# EAGLE library part 6861XX148922_686108148922 (library Wurth_Connectors_WR-FPC)
WR-FPC 1.00 mm SMT ZIF Horizontal - Bottom Contact - Hinge Type KIND PROPERTIES Pitch 1 mm MATERIAL PROPERTIES Insulator Material PA6T Contact Material Phosphor Bronze Contact Plating 120 (µ") Tin over 50 (µ") Nickel Contact Type Stamped Solder Tabs Brass <https://www.we-online.com/catalog/media/o58875v209%20Family_Con_FPC_ZIF_100_6861xx148922.jpg> Details see: https://www.we-online.com/catalog/en/FPC_1_00_SMT_ZIF_HORIZONTAL_BOTTOM_CONTACT_HINGE_TYPE_6861XX148922/ Updated by Ella Wu 2020-08-26 2020(C) Wurth Elektronik
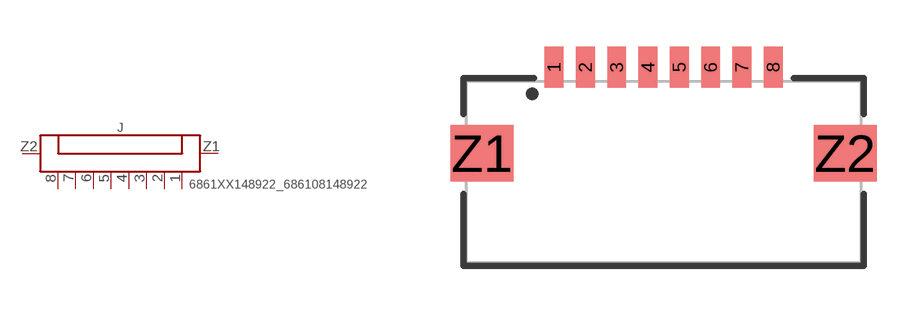
[diagram p120: symbol with the pads of 686108148922; footprint 686108148922]

Designator prefix J

## 6861XX148922_686108148922 (CONTACT-RESISTANCE: 50mOhm; DATASHEET-URL: https://www.we-online.com/catalog/datasheet/686108148922.pdf; IR: 1A; L: 12.6mm; MATE-WITH: WR-FFC 1.00 mm Flat Flexible Cable Type 1 (Contacts on same side)/ Type 2 (Contacts opposite); PACKAGING: Tape and Reel; PART-NUMBER: 686108148922; PINS: 8; PITCH: 1mm; TYPE: Horizontal; VALUE: 686108148922; WORKING-VOLTAGE: 100V(AC))  [686108148922]
1  1  pas
2  2  pas
3  3  pas
4  4  pas
5  5  pas
6  6  pas
7  7  pas
8  8  pas
Z1  Z1  pas
Z2  Z2  pas

## Footprint 686108148922 (pad centres in mm)
WR-FPC 1.00 mm SMT ZIF Horizontal - Bottom Contact - Hinge Type,8Pins
smd 0.6 x 1.3: 1 -3.5,3.35; 2 -2.5,3.35; 3 -1.5,3.35; 4 -0.5,3.35; 5 0.5,3.35; 6 1.5,3.35; 7 2.5,3.35; 8 3.5,3.35
smd 2 x 1.8: Z1 -5.8,0.6; Z2 5.8,0.6